# Altium footprint library PcbLib1.PcbLib: 46 footprints (part 3 of 3)
Each footprint in its own frame and in the unit in brackets; x right, y up, seen from the top. Pads: shape width x height; smd on the part's side, far side on the other; paste and mask are expansions set on the pad; w line width, h text height; cw(c..) or ccw(c..) is an arc to the next point about the centre after c.
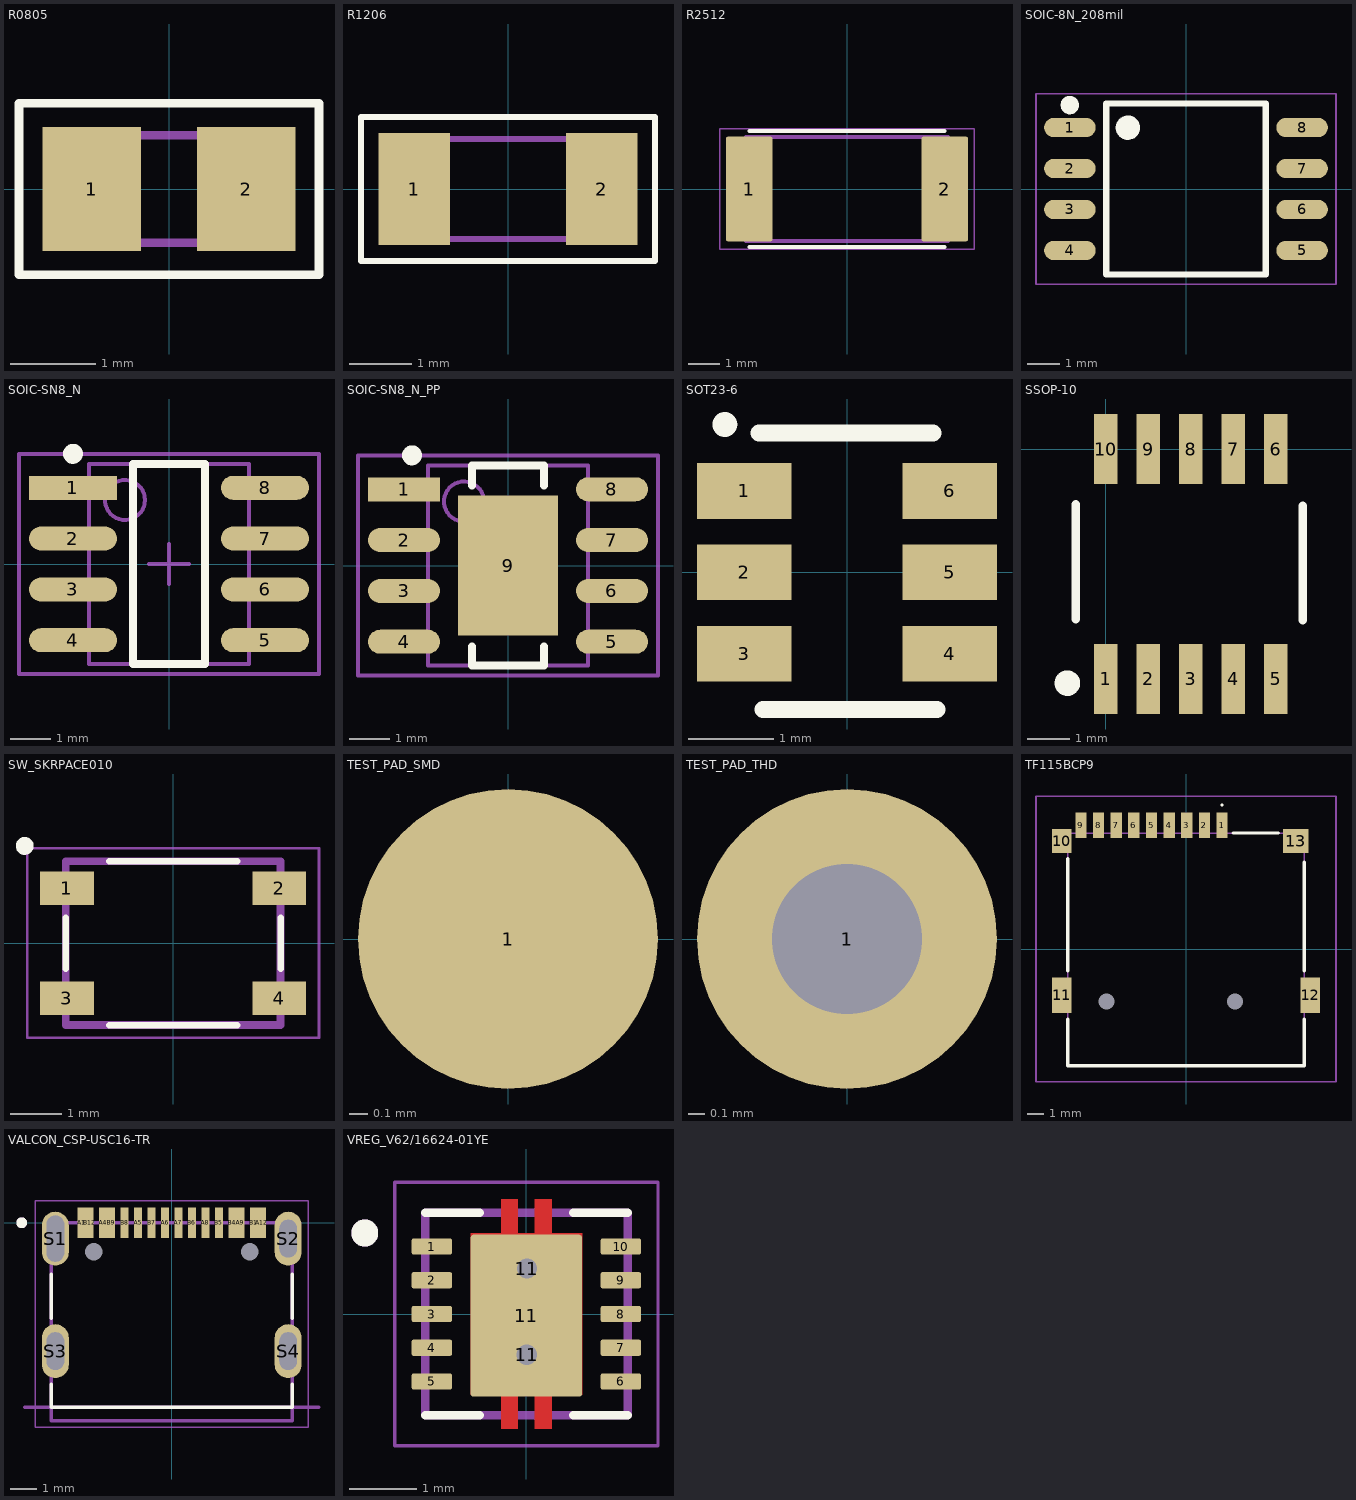
[diagram p2: the footprints below, top view; thin cyan lines are the x and y axes]

## R0805 [mm] "Chip Resistor; Body 2.0 x 1.2 mm (LxW typ)"
height 1.3
pads (2):
  rect 1.15x1.45 smd mask+0.05: 1(-0.9,0) 2(0.9,0)
Top Overlay:
  lines w0.1: -1.75,-1 1.75,-1 1.75,1 -1.75,1 -1.75,-1
Mechanical 15:
  lines w0.1: -1,-0.625 -1,0.625 1,0.625 1,-0.625 -1,-0.625
3D body "R0805.step": height 0.78, standoff 0, extent -1,-0.625 1,0.625

## R1206 [mm] "Chip Resistor; Body 3.2 x 1.6 mm (LxW typ)"
height 1.5
pads (2):
  rect 1.15x1.8 smd: 1(-1.5,0) 2(1.5,0)
Top Overlay:
  lines w0.1: -2.35,-1.15 2.35,-1.15 2.35,1.15 -2.35,1.15 -2.35,-1.15
Mechanical 15:
  lines w0.1: -1.6,-0.8 -1.6,0.8 1.6,0.8 1.6,-0.8 -1.6,-0.8
3D body "R1206.step": height 1, standoff 0, extent -1.6,-0.8 1.6,0.8

## R2512 [mm] "Chip Resistor; Body 3.2 x 1.6 mm (LxW typ)"
height 1.5
pads (2):
  rrect7% 1.5x3.37 smd: 1(-3.15,0) 2(3.15,0)
Top Overlay:
  lines w0.127: -3.15,-1.865 3.15,-1.865 ; -3.15,1.865 3.15,1.865
Mechanical 13:
  lines w0.127: -3.25,-1.68 -3.25,1.68 3.25,1.68 3.25,-1.68 -3.25,-1.68
Mechanical 15:
  lines w0.05: -4.1,-1.94 -4.1,1.94 4.1,1.94 4.1,-1.94 -4.1,-1.94
3D body "User Library-RESC6432X06.step": height 0.6, standoff 0, extent -3.2,-1.6 3.2,1.6

## SOIC-8N_208mil [mm]
pads (8):
  oval 1.6x0.6 smd: 1(-3.6,1.905) 2(-3.6,0.635) 3(-3.6,-0.635) 4(-3.6,-1.905) 5(3.6,-1.905) 6(3.6,-0.635) 7(3.6,0.635) 8(3.6,1.905)
Top Overlay:
  circle w0.127: c-1.8,1.9 r0.316
  circle w0.127: c-1.8,1.9 r0.224
  circle w0.127: c-1.8,1.9 r0.141
  circle w0.127: c-1.8,1.9 r0.1
  circle w0.127: c-1.8,1.8 r0.1
  circle w0.127: c-3.6,2.6 r0.224
  circle w0.127: c-3.5,2.6 r0.1
  circle w0.127: c-3.6,2.6 r0.1
  lines w0.2: -2.475,-2.65 2.475,-2.65 2.475,2.65 -2.475,2.65 -2.475,-2.65
Mechanical 15:
  lines w0.05: -4.65,-2.95 4.65,-2.95 4.65,2.95 -4.65,2.95 -4.65,-2.95
3D body "W25Q32JVSSIQ--3DModel-STEP-269445.STEP": height 2.16, standoff 0, extent -3.925,-2.65 3.975,2.63

## SOIC-SN8_N [mm] "SOIC, 8-Leads, Body 4.9x3.8mm, Pitch 1.27mm, IPC Medium Density"
height 1.75
pads (8):
  rect 2.2x0.6 smd: 1(-2.4,1.905)
  oval 2.2x0.6 smd: 2(-2.4,0.635) 3(-2.4,-0.635) 4(-2.4,-1.905) 5(2.4,-1.905) 6(2.4,-0.635) 7(2.4,0.635) 8(2.4,1.905)
Top Overlay:
  circle w0.25: c-2.4,2.755 r0.125
  lines w0.2: -0.9,-2.5 0.9,-2.5 0.9,2.5 -0.9,2.5 -0.9,-2.5
Mechanical 13:
  circle w0.1: c-1.1,1.6 r0.5
  lines w0.1: -2,-2.5 2,-2.5 2,2.5 -2,2.5 -2,-2.5
Mechanical 15:
  lines w0.1: -0.5,0 0.5,0 ; 0,-0.5 0,0.5 ; -3.75,-2.75 3.75,-2.75 3.75,2.75 -3.75,2.75 -3.75,-2.75
3D body "User Library-SOIC-8-1.step": height 1.75, standoff 0, extent -3,-2.45 3,2.45

## SOIC-SN8_N_PP [mm] "SOIC, 8-Leads, Body 4.9x3.8mm, Pitch 1.27mm, IPC Medium Density"
height 1.75
pads (9):
  rect 1.8x0.6 smd: 1(-2.6,1.905)
  oval 1.8x0.6 smd: 2(-2.6,0.635) 3(-2.6,-0.635) 4(-2.6,-1.905) 5(2.6,-1.905) 6(2.6,-0.635) 7(2.6,0.635) 8(2.6,1.905)
  rect 2.5x3.5 smd: 9(0,0)
Top Overlay:
  circle w0.25: c-2.4,2.755 r0.125
  lines w0.2: -0.9,-2.025 -0.9,-2.5 0.9,-2.5 0.9,-2.025 ; -0.9,2 -0.9,2.5 0.9,2.5 0.9,2
Mechanical 13:
  circle w0.1: c-1.1,1.6 r0.5
  lines w0.1: -2,-2.5 -2,2.5 2,2.5 2,-2.5 -2,-2.5
Mechanical 15:
  lines w0.1: -0.5,0 0.5,0 ; 0,-0.5 0,0.5 ; -3.75,-2.75 -3.75,2.75 3.75,2.75 3.75,-2.75 -3.75,-2.75
3D body "User Library-SOIC-8-1.step": height 1.75, standoff 0, extent -3,-2.45 3,2.45

## SOT23-6 [mm] "SOT23, 6-Leads, Body 2.9x1.6mm, Pitch 0.95mm, Lead Span 2.7mm, IPC Medium Density"
height 1.45
pads (6):
  rect 1.1x0.65 smd: 1(-1.2,0.95) 2(-1.2,0) 3(-1.2,-0.95) 4(1.2,-0.95) 5(1.2,0) 6(1.2,0.95)
Top Overlay:
  circle w0.15: c-1.425,1.725 r0.07
  lines w0.2: -1.025,1.625 1.003,1.624 ; -0.978,-1.599 1.05,-1.6
3D body "SOT-23-6.step": height 1.43, standoff -0.03, extent -1.5,-1.5 1.5,1.5

## SSOP-10 [mm]
pads (10):
  rect 0.55x1.65 smd: 1(0,-5.4) 2(1,-5.4) 3(2,-5.4) 4(3,-5.4) 5(4,-5.4) 6(4,0) 7(3,0) 8(2,0) 9(1,0) 10(0,0)
Top Overlay:
  circle w0.3: c-0.9,-5.5 r0.15
  lines w0.2: -0.7,-4 -0.7,-1.3 ; 4.633,-4.026 4.633,-1.326
3D body "SSOP10.step": height 1.42, standoff 0.1, extent -0.375,-5.578 4.425,0.228

## SW_SKRPACE010 [mm]
pads (4):
  rect 1.05x0.65 smd: 1(-2.075,1.075) 2(2.075,1.075) 3(-2.075,-1.075) 4(2.075,-1.075)
Top Overlay:
  circle w0.127: c-2.9,1.9 r0.05
  circle w0.127: c-2.9,1.9 r0.112
  lines w0.127: -2.1,-0.5 -2.1,0.5 ; -1.25,-1.6 1.25,-1.6 ; -1.25,1.6 1.25,1.6 ; 2.1,-0.5 2.1,0.5
Mechanical 13:
  lines w0.152: -2.1,-1.6 2.1,-1.6 2.1,1.6 -2.1,1.6 -2.1,-1.6
Mechanical 15:
  lines w0.05: -2.85,-1.85 2.85,-1.85 2.85,1.85 -2.85,1.85 -2.85,-1.85
3D body "SKRPACE010 v4.step": height 2.55, standoff 0, extent -2.446,-1.6 2.446,1.6

## TEST_PAD_SMD [mm]
pads (1):
  round 1.6 smd paste-2: 1(0,0)

## TEST_PAD_THD [mm]
pads (1):
  round 1.8 hole 0.9: 1(0,0)
3D body "CircuitWorks-TEST POINT.step": height 6.5, standoff -3, extent -0.5,-0.5 0.5,0.5

## TF115BCP9 [mm]
pads (15):
  rect 0.7x1.6 smd: 1(2.25,7.75) 2(1.15,7.75) 3(0.05,7.75) 4(-1.05,7.75) 5(-2.15,7.75) 6(-3.25,7.75) 7(-4.35,7.75) 8(-5.45,7.75) 9(-6.55,7.75)
  rect 1.2x1.5 smd: 10(-7.75,6.75)
  rect 1.2x2.2 smd: 11(-7.75,-2.85) 12(7.75,-2.85)
  rect 1.6x1.5 smd: 13(6.85,6.75)
  round 0.5 hole 1 unplated: MH1(3.05,-3.25) MH2(-4.95,-3.25)
Top Overlay:
  lines w0.1: 2.25,8.95 cw(c2.25,9) 2.25,9.05 cw(c2.25,9) 2.25,8.95
  lines w0.2: -7.375,-4.35 -7.375,-7.25 7.375,-7.25 7.375,-4.35 ; -7.375,-1.35 -7.375,5.65 ; 2.95,7.25 5.75,7.25 ; 7.375,-1.35 7.375,5.45
Mechanical 15:
  lines w0.1: -7.375,-7.25 7.375,-7.25 7.375,7.25 -7.375,7.25 -7.375,-7.25
Mechanical 20:
  lines w0.1: -9.35,-8.25 9.35,-8.25 9.35,9.55 -9.35,9.55 -9.35,-8.25
3D body "TF-115-BCP9.stp": height 2.1, standoff -1.7, extent -8.18,-7.4 8.28,8.33

## VALCON_CSP-USC16-TR [mm]
height 3.26
pads (22):
  rect 0.3x1.14 smd: A1(-3.35,0) A4(-2.55,0) A5(-1.25,0) A6(-0.25,0) A7(0.25,0) A8(1.25,0) A9(2.55,0) A12(3.35,0) B1(3.05,0) B4(2.25,0) B5(1.75,0) B6(0.75,0) B7(-0.75,0) B8(-1.75,0) B9(-2.25,0) B12(-3.05,0)
  oval 1x2 hole 0.65 slot 1.72 at 90 deg: S1(-4.325,-0.59)
  oval 1x2 hole 0.65 slot 1.4 at 90 deg: S2(4.325,-0.59) S3(-4.325,-4.77) S4(4.325,-4.77)
  round 0 hole 0.65 unplated: ""(-2.89,-1.07) ""(2.89,-1.07)
Top Overlay:
  circle w0.2: c-5.575,0 r0.1
  lines w0.127: -4.47,-6 -4.47,-6.86 4.47,-6.86 4.47,-6 ; -4.47,-3.55 -4.47,-1.91 ; 4.47,-3.55 4.47,-1.91
Mechanical 1:
  lines w0: 4,-0.093 cw(c4.335,-0.075) 4.317,0.26 cw(c4.335,-0.055) 4.65,-0.038 ; 4,-0.09 4,-1.14 ccw(c4.31,-1.13) 4.321,-1.44 ; 4.318,-1.44 ccw(c4.335,-1.125) 4.65,-1.142 ; 4.65,-1.14 4.65,-0.04
Mechanical 13:
  circle w0.2: c-5.575,0 r0.1
  lines w0.127: -5.47,-6.86 5.47,-6.86 ; -4.47,-7.35 -4.47,0 4.47,0 4.47,-7.35 -4.47,-7.35
  text "PCB Edge" at -2.07,-6.6 h0.7
Mechanical 15:
  lines w0.05: -5.075,-7.6 -5.075,0.82 5.075,0.82 5.075,-7.6 -5.075,-7.6
3D body "step_temp.STEP": height 3.26, standoff -1, extent -4.495,-7.355 4.445,0.395

## VREG_V62/16624-01YE [mm]
pads (13):
  rrect25% 0.6x0.24 smd mask+0: 1(-1.4,1) 2(-1.4,0.5) 3(-1.4,0) 4(-1.4,-0.5) 5(-1.4,-1) 6(1.4,-1) 7(1.4,-0.5) 8(1.4,0) 9(1.4,0.5) 10(1.4,1)
  rrect5% 1.65x2.4 smd paste-2 mask+0: 11(0,-0.025)
  round 0.6 hole 0.3 mask+0: 11(0.004,-0.602) 11(0.008,0.674)
Top Layer:
  region: 0.375,1.2 0.825,1.2 0.825,-1.2 0.375,-1.2 0.375,-1.7 0.125,-1.7 0.125,-1.2 -0.125,-1.2 -0.125,-1.7 -0.375,-1.7 -0.375,-1.2 -0.825,-1.2 -0.825,1.2 -0.375,1.2 -0.375,1.7 -0.125,1.7 -0.125,1.2 0.125,1.2 0.125,1.7 0.375,1.7
Top Overlay:
  circle w0.2: c-2.395,1.2 r0.1
  lines w0.127: -1.5,-1.5 -0.695,-1.5 ; -1.5,1.5 -0.695,1.5 ; 0.695,-1.5 1.5,-1.5 ; 0.695,1.5 1.5,1.5
Top Paste:
  region: 0.75,0.1 -0.75,0.1 -0.75,1.16 0.75,1.16
  region: 0.75,-1.16 -0.75,-1.16 -0.75,-0.1 0.75,-0.1
  region: 0.375,1.36 0.125,1.36 0.125,1.7 0.375,1.7
  region: -0.125,1.36 -0.375,1.36 -0.375,1.7 -0.125,1.7
  region: 0.375,-1.7 0.125,-1.7 0.125,-1.36 0.375,-1.36
  region: -0.125,-1.7 -0.375,-1.7 -0.375,-1.36 -0.125,-1.36
Top Solder:
  region: 0.445,1.27 0.895,1.27 0.895,-1.27 0.445,-1.27 0.445,-1.77 0.055,-1.77 0.055,-1.27 -0.055,-1.27 -0.055,-1.77 -0.445,-1.77 -0.445,-1.27 -0.895,-1.27 -0.895,1.27 -0.445,1.27 -0.445,1.77 -0.055,1.77 -0.055,1.27 0.055,1.27 0.055,1.77 0.445,1.77
  region: 1.77,0.81 1.03,0.81 1.03,1.19 1.77,1.19
  region: 1.77,0.31 1.03,0.31 1.03,0.69 1.77,0.69
  region: 1.77,-0.19 1.03,-0.19 1.03,0.19 1.77,0.19
  region: 1.77,-0.69 1.03,-0.69 1.03,-0.31 1.77,-0.31
  region: 1.77,-1.19 1.03,-1.19 1.03,-0.81 1.77,-0.81
  region: -1.03,-1.19 -1.77,-1.19 -1.77,-0.81 -1.03,-0.81
  region: -1.03,-0.69 -1.77,-0.69 -1.77,-0.31 -1.03,-0.31
  region: -1.03,-0.19 -1.77,-0.19 -1.77,0.19 -1.03,0.19
  region: -1.03,0.31 -1.77,0.31 -1.77,0.69 -1.03,0.69
  region: -1.03,0.81 -1.77,0.81 -1.77,1.19 -1.03,1.19
Mechanical 13:
  circle w0.2: c-2.395,1.2 r0.1
  lines w0.127: -1.5,-1.5 -1.5,1.5 1.5,1.5 1.5,-1.5 -1.5,-1.5
Mechanical 15:
  lines w0.05: -1.95,-1.95 -1.95,1.95 1.95,1.95 1.95,-1.95 -1.95,-1.95
3D body "TPS63000DRCR.STEP": height 1, standoff 0, extent -1.5,-1.5 1.5,1.5